# Altium schematic symbol library MAX14934–MAX14936.SchLib: 3 symbols
Pins are listed as number, name and electrical type; pins without a type are passive.

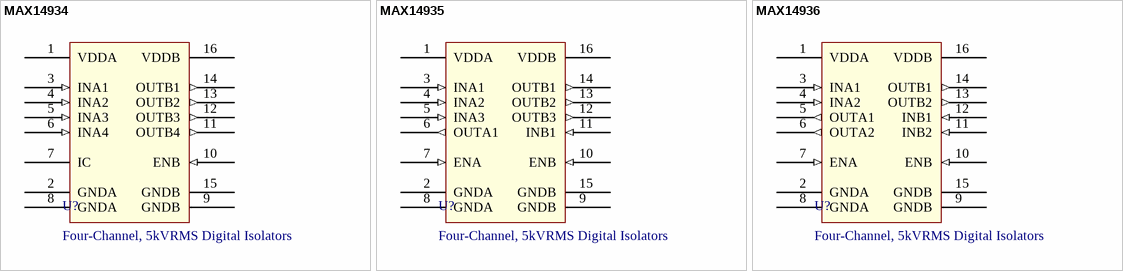
[diagram p0: symbols MAX14934 to MAX14936]

## MAX14934
designator U?, comment Four-Channel, 5kVRMS Digital Isolators
footprint 90-0107 (SOIC Wide 16)
pins: 1 VDDA (power), 2 GNDA (power), 3 INA1 (in), 4 INA2 (in), 5 INA3 (in), 6 INA4 (in), 7 IC, 8 GNDA (power), 9 GNDB (power), 10 ENB (in), 11 OUTB4 (out), 12 OUTB3 (out), 13 OUTB2 (out), 14 OUTB1 (out), 15 GNDB (power), 16 VDDB (power)

## MAX14935
designator U?, comment Four-Channel, 5kVRMS Digital Isolators
footprint 90-0107 (SOIC Wide 16)
pins: 1 VDDA (power), 2 GNDA (power), 3 INA1 (in), 4 INA2 (in), 5 INA3 (in), 6 OUTA1 (out), 7 ENA (in), 8 GNDA (power), 9 GNDB (power), 10 ENB (in), 11 INB1 (in), 12 OUTB3 (out), 13 OUTB2 (out), 14 OUTB1 (out), 15 GNDB (power), 16 VDDB (power)

## MAX14936
designator U?, comment Four-Channel, 5kVRMS Digital Isolators
footprint 90-0107 (SOIC Wide 16)
pins: 1 VDDA (power), 2 GNDA (power), 3 INA1 (in), 4 INA2 (in), 5 OUTA1 (out), 6 OUTA2 (out), 7 ENA (in), 8 GNDA (power), 9 GNDB (power), 10 ENB (in), 11 INB2 (in), 12 INB1 (in), 13 OUTB2 (out), 14 OUTB1 (out), 15 GNDB (power), 16 VDDB (power)